# Altium schematic symbol library IS-GPX-1.SchLib: 1 symbol
Pins are listed as number, name and electrical type; pins without a type are passive.

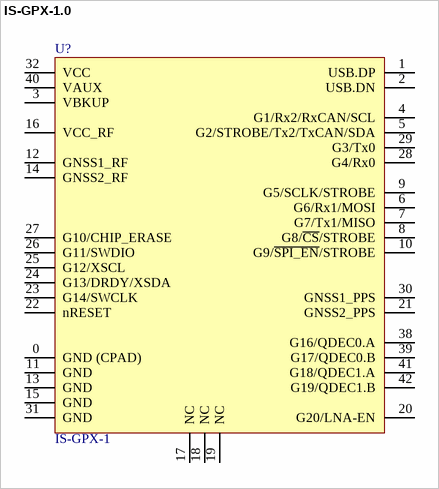
[diagram p0: symbol IS-GPX-1.0]

## IS-GPX-1.0
designator U?, comment Manufacturer Part Number: IS-GPX-1  (hidden comment: GPX)
Inertial Sense GPX; Manufacturer: Inertial Sense; Supplier 1: Inertial Sense; Supplier Part Number 1: IS-GPX-1
footprint IS-GPX-1.0 (Inerial Sense GPX r1.0, 42pins 1.27mm pitch)
pins: 0 GND (CPAD) (power), 1 USB.DP, 2 USB.DN, 3 VBKUP, 4 G1/Rx2/RxCAN/SCL, 5 G2/STROBE/Tx2/TxCAN/SDA, 6 G6/Rx1/MOSI, 7 G7/Tx1/MISO, 8 G8/~{CS}/STROBE, 9 G5/SCLK/STROBE, 10 G9/~{SPI_EN}/STROBE, 11 GND (power), 12 GNSS1_RF, 13 GND (power), 14 GNSS2_RF, 15 GND (power), 16 VCC_RF (power), 17 NC, 18 NC, 19 NC, 20 G20/LNA-EN, 21 GNSS2_PPS, 22 nRESET, 23 G14/SWCLK, 24 G13/DRDY/XSDA, 25 G12/XSCL, 26 G11/SWDIO, 27 G10/CHIP_ERASE, 28 G4/Rx0, 29 G3/Tx0, 30 GNSS1_PPS, 31 GND (power), 32 VCC (power), 38 G16/QDEC0.A, 39 G17/QDEC0.B, 40 VAUX (power), 41 G18/QDEC1.A, 42 G19/QDEC1.B